# Altium integrated library TI Amplifiers and Linear Special Function Amplifier.IntLib: 708 symbols (part 39 of 47)
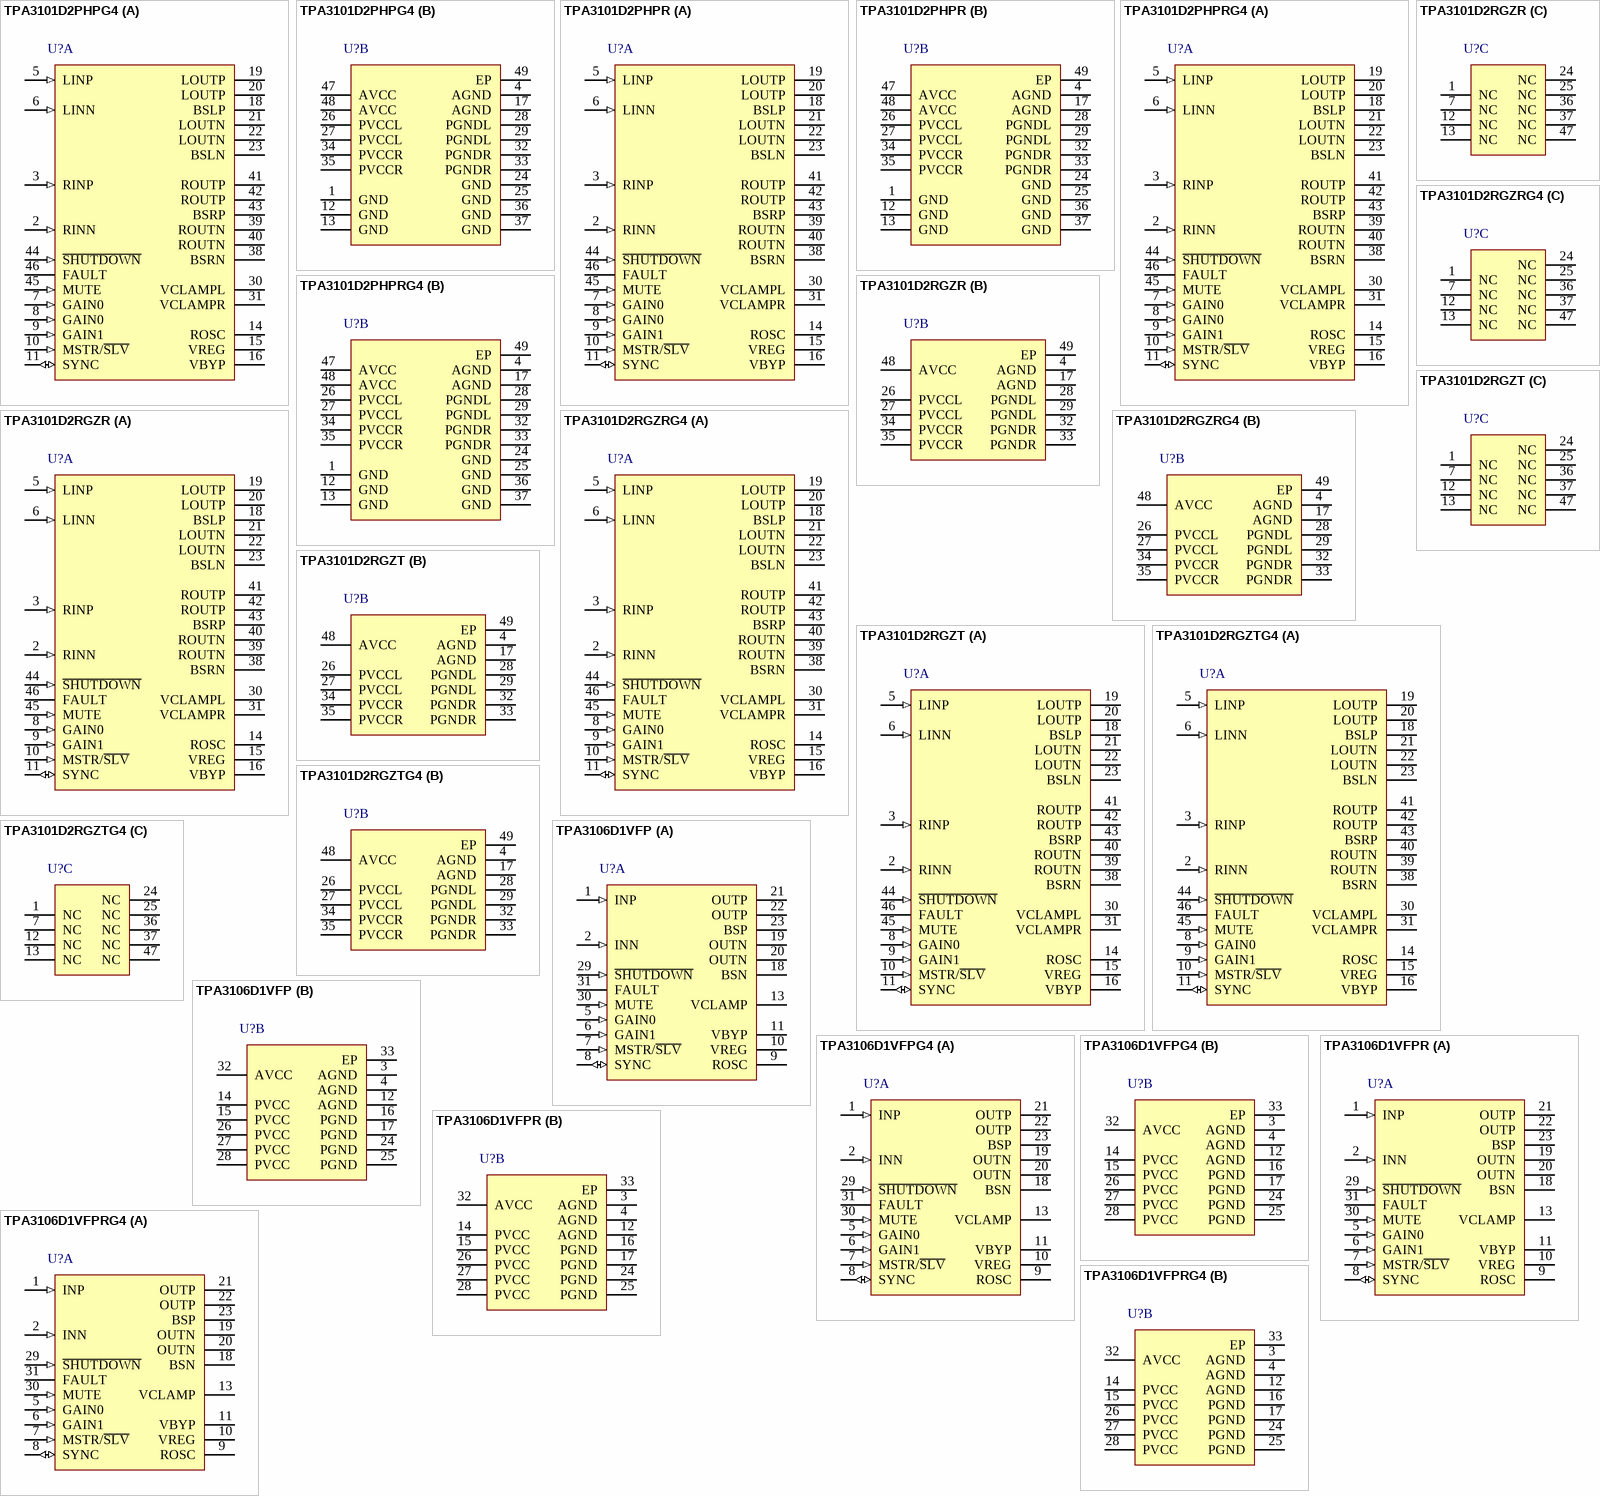
[diagram p77: symbols TPA3101D2PHPG4 to TPA3106D1VFPRG4]

## TPA3101D2RGZR
designator U?
10 W Stereo Class-D Audio Power Amplifier, -40 to 85 degC, 48-pin QFN (RGZ48), Green (RoHS & no Sb/Br); Manufacturer: Texas Instruments; PartNumber: TPA3101D2RGZR; Analog Supply Max [V]: 26; Analog Supply Min [V]: 10; Input Type: Analog; Max. Number of Speaker Outputs: 2; SubFamily: Mid/High-Power Amplifier; DatasheetVersion: SLOS473C; PackageVersion: 4204101/F, 06/2011; PackageReference: RGZ48-5150X5150TP; PackageDescription: 48-Pin Plastic Flat Pack, Body 7 x 7 mm, Pitch 0.5 mm; Supplier 1: Digi-Key; Supplier Part Number 1: 296-19424-2-ND; Supplier 2: Digi-Key; Supplier Part Number 2: 296-19424-1-ND; Supplier 3: Digi-Key; Supplier Part Number 3: 296-19424-6-ND; Supplier 4: Newark; Supplier Part Number 4: 72K0967; Supplier 5: Mouser; Supplier Part Number 5: 595-TPA3101D2RGZR; Eco-Plan: Green (RoHS & no Sb/Br); Power Stage Supply Min(V): 10; Mounting Technology: Surface Mount; Code_JEDEC: MO-220; ComponentLink1Description: Manufacturer URL; ComponentLink1URL: http://www.ti.com/; ComponentLink2Description: Datasheet; ComponentLink2URL: http://www.ti.com/general/docs/lit/getliterature.tsp?genericPartNumber=TPA3101D2&fileType=pdf; ComponentLink3Description: Package Specification; ComponentLink3URL: http://www.ti.com/lit/ml/mpqf123e/mpqf123e.pdf
footprint TI-RGZ48-5150X5150TP_V (QFN, 48-Leads, Body 7x7mm, Pitch 0.5mm, Thermal Pad 5.15x5.15mm, TI Recommended)
part A pins: 2 RINN (in) "Negative audio input for right channel. Biased at VREG/2.", 3 RINP (in) "Positive audio input for right channel. Biased at VREG/2.", 5 LINP (in) "Positive audio input for left channel. Biased at VREG/2.", 6 LINN (in) "Negative audio input for left channel. Biased at VREG/2.", 8 GAIN0 (in) "Gain select least significant bit. TTL logic levels with compliance to VREG.", 9 GAIN1 (in) "Gain select most significant bit. TTL logic levels with compliance to VREG.", 10 MSTR/~{SLV} (in) "Master/Slave select for determining direction of SYNC terminal. HIGH=Master mode, SYNC terminal is an output; LOW = slave mode, SYNC terminal accepts a clock input. TTL logic levels with compliance to VREG.", 11 SYNC (io) "Clock input/output for synchronizing multiple class-D devices. Direction determined by MSTR/S\L\V\ terminal. Input signal not to exceed VREG.", 14 ROSC "I/O for current setting resistor of ramp generator", 15 VREG "4-V regulated output for use by internal cells, GAINx, MUTE, and MSTR/S\L\V\ pins only. Not specified for driving other external circuitry", 16 VBYP "Reference for preamplifier. Nominally equal to 1.25 V. Also controls start-up time via external capacitor sizing.", 18 BSLP "Bootstrap I/O for left channel, positive high-side FET.", 19 LOUTP (hiz) "Class-D 1/2-H-bridge positive output for left channel", 20 LOUTP (hiz) "Class-D 1/2-H-bridge positive output for left channel", 21 LOUTN (hiz) "Class-D 1/2-H-bridge negative output for left channel.", 22 LOUTN (hiz) "Class-D 1/2-H-bridge negative output for left channel.", 23 BSLN "Bootstrap I/O for left channel, negative high-side FET.", 30 VCLAMPL "Internally generated voltage supply for left channel bootstrap capacitor.", 31 VCLAMPR "Internally generated voltage supply for right channel bootstrap capacitor.", 38 BSRN "Bootstrap I/O for right channel, negative high-side FET.", 39 ROUTN (hiz) "Class-D 1/2-H-bridge negative output for right channel.", 40 ROUTN (hiz) "Class-D 1/2-H-bridge negative output for right channel.", 41 ROUTP (hiz) "Class-D 1/2-H-bridge positive output for right channel.", 42 ROUTP (hiz) "Class-D 1/2-H-bridge positive output for right channel.", 43 BSRP "Bootstrap I/O for right channel, positive high-side FET.", 44 ~{SHUTDOWN} (in) "Shutdown signal for IC (LOW = disabled, HIGH = operational). TTL logic levels with compliance to AVCC.", 45 MUTE (in) "Mute signal for quick disable/enable of outputs (HIGH = outputs high-Z, LOW = outputs enabled). TTL logic levels with compliance to AVCC", 46 FAULT (hiz) "TTL compatible output. HIGH = short-circuit fault. LOW = no fault. Only reports short-circuit faults. Thermal faults are not reported on this terminal."
part B pins: 4 AGND (power) "Analog ground for digital/analog cells in core.", 17 AGND (power) "Analog ground for digital/analog cells in core.", 26 PVCCL (power) "Power supply for left channel H-bridge, not internally connected to PVCCR or AVCC.", 27 PVCCL (power) "Power supply for left channel H-bridge, not internally connected to PVCCR or AVCC.", 28 PGNDL (power) "Power ground for left channel H-bridge.", 29 PGNDL (power) "Power ground for left channel H-bridge.", 32 PGNDR (power) "Power ground for right channel H-bridge.", 33 PGNDR (power) "Power ground for right channel H-bridge.", 34 PVCCR (power) "Power supply for right channel H-bridge, not connected to PVCCL or AVCC.", 35 PVCCR (power) "Power supply for right channel H-bridge, not connected to PVCCL or AVCC.", 48 AVCC (power) "High-voltage analog power supply. Not internally connected to PVCCR or PVCCL.", 49 EP (power) "Connect to AGND and PGND - should be star point for both grounds. Internal resistive connection to AGND and PGND. Thermal vias on the PCB should connect this pad to a large copper area on an internal or bottom layer for the (See Datasheet)"
part C pins: 1 NC "Not internally connected.", 7 NC "Not internally connected.", 12 NC "Not internally connected.", 13 NC "Not internally connected.", 24 NC "Not internally connected.", 25 NC "Not internally connected.", 36 NC "Not internally connected.", 37 NC "Not internally connected.", 47 NC "Not internally connected."

## TPA3101D2RGZRG4
designator U?
10 W Stereo Class-D Audio Power Amplifier, -40 to 85 degC, 48-pin QFN (RGZ48), Green (RoHS & no Sb/Br); Manufacturer: Texas Instruments; PartNumber: TPA3101D2RGZRG4; Analog Supply Max [V]: 26; Analog Supply Min [V]: 10; Input Type: Analog; Max. Number of Speaker Outputs: 2; SubFamily: Mid/High-Power Amplifier; DatasheetVersion: SLOS473C; PackageVersion: 4204101/F, 06/2011; PackageReference: RGZ48-5150X5150TP; PackageDescription: 48-Pin Plastic Flat Pack, Body 7 x 7 mm, Pitch 0.5 mm; Supplier 1: Digi-Key; Supplier Part Number 1: TPA3101D2RGZRG4-ND; Supplier 2: Newark; Supplier Part Number 2: 73K9577; Supplier 3: Mouser; Supplier Part Number 3: 595-TPA3101D2RGZRG4; Eco-Plan: Green (RoHS & no Sb/Br); Power Stage Supply Min(V): 10; Mounting Technology: Surface Mount; Code_JEDEC: MO-220; ComponentLink1Description: Manufacturer URL; ComponentLink1URL: http://www.ti.com/; ComponentLink2Description: Datasheet; ComponentLink2URL: http://www.ti.com/general/docs/lit/getliterature.tsp?genericPartNumber=TPA3101D2&fileType=pdf; ComponentLink3Description: Package Specification; ComponentLink3URL: http://www.ti.com/lit/ml/mpqf123e/mpqf123e.pdf
footprint TI-RGZ48-5150X5150TP_V (QFN, 48-Leads, Body 7x7mm, Pitch 0.5mm, Thermal Pad 5.15x5.15mm, TI Recommended)
part A pins: 2 RINN (in) "Negative audio input for right channel. Biased at VREG/2.", 3 RINP (in) "Positive audio input for right channel. Biased at VREG/2.", 5 LINP (in) "Positive audio input for left channel. Biased at VREG/2.", 6 LINN (in) "Negative audio input for left channel. Biased at VREG/2.", 8 GAIN0 (in) "Gain select least significant bit. TTL logic levels with compliance to VREG.", 9 GAIN1 (in) "Gain select most significant bit. TTL logic levels with compliance to VREG.", 10 MSTR/~{SLV} (in) "Master/Slave select for determining direction of SYNC terminal. HIGH=Master mode, SYNC terminal is an output; LOW = slave mode, SYNC terminal accepts a clock input. TTL logic levels with compliance to VREG.", 11 SYNC (io) "Clock input/output for synchronizing multiple class-D devices. Direction determined by MSTR/S\L\V\ terminal. Input signal not to exceed VREG.", 14 ROSC "I/O for current setting resistor of ramp generator", 15 VREG "4-V regulated output for use by internal cells, GAINx, MUTE, and MSTR/S\L\V\ pins only. Not specified for driving other external circuitry", 16 VBYP "Reference for preamplifier. Nominally equal to 1.25 V. Also controls start-up time via external capacitor sizing.", 18 BSLP "Bootstrap I/O for left channel, positive high-side FET.", 19 LOUTP (hiz) "Class-D 1/2-H-bridge positive output for left channel", 20 LOUTP (hiz) "Class-D 1/2-H-bridge positive output for left channel", 21 LOUTN (hiz) "Class-D 1/2-H-bridge negative output for left channel.", 22 LOUTN (hiz) "Class-D 1/2-H-bridge negative output for left channel.", 23 BSLN "Bootstrap I/O for left channel, negative high-side FET.", 30 VCLAMPL "Internally generated voltage supply for left channel bootstrap capacitor.", 31 VCLAMPR "Internally generated voltage supply for right channel bootstrap capacitor.", 38 BSRN "Bootstrap I/O for right channel, negative high-side FET.", 39 ROUTN (hiz) "Class-D 1/2-H-bridge negative output for right channel.", 40 ROUTN (hiz) "Class-D 1/2-H-bridge negative output for right channel.", 41 ROUTP (hiz) "Class-D 1/2-H-bridge positive output for right channel.", 42 ROUTP (hiz) "Class-D 1/2-H-bridge positive output for right channel.", 43 BSRP "Bootstrap I/O for right channel, positive high-side FET.", 44 ~{SHUTDOWN} (in) "Shutdown signal for IC (LOW = disabled, HIGH = operational). TTL logic levels with compliance to AVCC.", 45 MUTE (in) "Mute signal for quick disable/enable of outputs (HIGH = outputs high-Z, LOW = outputs enabled). TTL logic levels with compliance to AVCC", 46 FAULT (hiz) "TTL compatible output. HIGH = short-circuit fault. LOW = no fault. Only reports short-circuit faults. Thermal faults are not reported on this terminal."
part B pins: 4 AGND (power) "Analog ground for digital/analog cells in core.", 17 AGND (power) "Analog ground for digital/analog cells in core.", 26 PVCCL (power) "Power supply for left channel H-bridge, not internally connected to PVCCR or AVCC.", 27 PVCCL (power) "Power supply for left channel H-bridge, not internally connected to PVCCR or AVCC.", 28 PGNDL (power) "Power ground for left channel H-bridge.", 29 PGNDL (power) "Power ground for left channel H-bridge.", 32 PGNDR (power) "Power ground for right channel H-bridge.", 33 PGNDR (power) "Power ground for right channel H-bridge.", 34 PVCCR (power) "Power supply for right channel H-bridge, not connected to PVCCL or AVCC.", 35 PVCCR (power) "Power supply for right channel H-bridge, not connected to PVCCL or AVCC.", 48 AVCC (power) "High-voltage analog power supply. Not internally connected to PVCCR or PVCCL.", 49 EP (power) "Connect to AGND and PGND - should be star point for both grounds. Internal resistive connection to AGND and PGND. Thermal vias on the PCB should connect this pad to a large copper area on an internal or bottom layer for the (See Datasheet)"
part C pins: 1 NC "Not internally connected.", 7 NC "Not internally connected.", 12 NC "Not internally connected.", 13 NC "Not internally connected.", 24 NC "Not internally connected.", 25 NC "Not internally connected.", 36 NC "Not internally connected.", 37 NC "Not internally connected.", 47 NC "Not internally connected."

## TPA3101D2RGZT
designator U?
10 W Stereo Class-D Audio Power Amplifier, -40 to 85 degC, 48-pin QFN (RGZ48), Green (RoHS & no Sb/Br); Manufacturer: Texas Instruments; PartNumber: TPA3101D2RGZT; Analog Supply Max [V]: 26; Analog Supply Min [V]: 10; Input Type: Analog; Max. Number of Speaker Outputs: 2; SubFamily: Mid/High-Power Amplifier; DatasheetVersion: SLOS473C; PackageVersion: 4204101/F, 06/2011; PackageReference: RGZ48-5150X5150TP; PackageDescription: 48-Pin Plastic Flat Pack, Body 7 x 7 mm, Pitch 0.5 mm; Supplier 1: Digi-Key; Supplier Part Number 1: TPA3101D2RGZT-ND; Supplier 2: Mouser; Supplier Part Number 2: 595-TPA3101D2RGZT; Eco-Plan: Green (RoHS & no Sb/Br); Power Stage Supply Min(V): 10; Mounting Technology: Surface Mount; Code_JEDEC: MO-220; ComponentLink1Description: Manufacturer URL; ComponentLink1URL: http://www.ti.com/; ComponentLink2Description: Datasheet; ComponentLink2URL: http://www.ti.com/general/docs/lit/getliterature.tsp?genericPartNumber=TPA3101D2&fileType=pdf; ComponentLink3Description: Package Specification; ComponentLink3URL: http://www.ti.com/lit/ml/mpqf123e/mpqf123e.pdf
footprint TI-RGZ48-5150X5150TP_V (QFN, 48-Leads, Body 7x7mm, Pitch 0.5mm, Thermal Pad 5.15x5.15mm, TI Recommended)
part A pins: 2 RINN (in) "Negative audio input for right channel. Biased at VREG/2.", 3 RINP (in) "Positive audio input for right channel. Biased at VREG/2.", 5 LINP (in) "Positive audio input for left channel. Biased at VREG/2.", 6 LINN (in) "Negative audio input for left channel. Biased at VREG/2.", 8 GAIN0 (in) "Gain select least significant bit. TTL logic levels with compliance to VREG.", 9 GAIN1 (in) "Gain select most significant bit. TTL logic levels with compliance to VREG.", 10 MSTR/~{SLV} (in) "Master/Slave select for determining direction of SYNC terminal. HIGH=Master mode, SYNC terminal is an output; LOW = slave mode, SYNC terminal accepts a clock input. TTL logic levels with compliance to VREG.", 11 SYNC (io) "Clock input/output for synchronizing multiple class-D devices. Direction determined by MSTR/S\L\V\ terminal. Input signal not to exceed VREG.", 14 ROSC "I/O for current setting resistor of ramp generator", 15 VREG "4-V regulated output for use by internal cells, GAINx, MUTE, and MSTR/S\L\V\ pins only. Not specified for driving other external circuitry", 16 VBYP "Reference for preamplifier. Nominally equal to 1.25 V. Also controls start-up time via external capacitor sizing.", 18 BSLP "Bootstrap I/O for left channel, positive high-side FET.", 19 LOUTP (hiz) "Class-D 1/2-H-bridge positive output for left channel", 20 LOUTP (hiz) "Class-D 1/2-H-bridge positive output for left channel", 21 LOUTN (hiz) "Class-D 1/2-H-bridge negative output for left channel.", 22 LOUTN (hiz) "Class-D 1/2-H-bridge negative output for left channel.", 23 BSLN "Bootstrap I/O for left channel, negative high-side FET.", 30 VCLAMPL "Internally generated voltage supply for left channel bootstrap capacitor.", 31 VCLAMPR "Internally generated voltage supply for right channel bootstrap capacitor.", 38 BSRN "Bootstrap I/O for right channel, negative high-side FET.", 39 ROUTN (hiz) "Class-D 1/2-H-bridge negative output for right channel.", 40 ROUTN (hiz) "Class-D 1/2-H-bridge negative output for right channel.", 41 ROUTP (hiz) "Class-D 1/2-H-bridge positive output for right channel.", 42 ROUTP (hiz) "Class-D 1/2-H-bridge positive output for right channel.", 43 BSRP "Bootstrap I/O for right channel, positive high-side FET.", 44 ~{SHUTDOWN} (in) "Shutdown signal for IC (LOW = disabled, HIGH = operational). TTL logic levels with compliance to AVCC.", 45 MUTE (in) "Mute signal for quick disable/enable of outputs (HIGH = outputs high-Z, LOW = outputs enabled). TTL logic levels with compliance to AVCC", 46 FAULT (hiz) "TTL compatible output. HIGH = short-circuit fault. LOW = no fault. Only reports short-circuit faults. Thermal faults are not reported on this terminal."
part B pins: 4 AGND (power) "Analog ground for digital/analog cells in core.", 17 AGND (power) "Analog ground for digital/analog cells in core.", 26 PVCCL (power) "Power supply for left channel H-bridge, not internally connected to PVCCR or AVCC.", 27 PVCCL (power) "Power supply for left channel H-bridge, not internally connected to PVCCR or AVCC.", 28 PGNDL (power) "Power ground for left channel H-bridge.", 29 PGNDL (power) "Power ground for left channel H-bridge.", 32 PGNDR (power) "Power ground for right channel H-bridge.", 33 PGNDR (power) "Power ground for right channel H-bridge.", 34 PVCCR (power) "Power supply for right channel H-bridge, not connected to PVCCL or AVCC.", 35 PVCCR (power) "Power supply for right channel H-bridge, not connected to PVCCL or AVCC.", 48 AVCC (power) "High-voltage analog power supply. Not internally connected to PVCCR or PVCCL.", 49 EP (power) "Connect to AGND and PGND - should be star point for both grounds. Internal resistive connection to AGND and PGND. Thermal vias on the PCB should connect this pad to a large copper area on an internal or bottom layer for the (See Datasheet)"
part C pins: 1 NC "Not internally connected.", 7 NC "Not internally connected.", 12 NC "Not internally connected.", 13 NC "Not internally connected.", 24 NC "Not internally connected.", 25 NC "Not internally connected.", 36 NC "Not internally connected.", 37 NC "Not internally connected.", 47 NC "Not internally connected."

## TPA3101D2RGZTG4
designator U?
10 W Stereo Class-D Audio Power Amplifier, -40 to 85 degC, 48-pin QFN (RGZ48), Green (RoHS & no Sb/Br); Manufacturer: Texas Instruments; PartNumber: TPA3101D2RGZTG4; Analog Supply Max [V]: 26; Analog Supply Min [V]: 10; Input Type: Analog; Max. Number of Speaker Outputs: 2; SubFamily: Mid/High-Power Amplifier; DatasheetVersion: SLOS473C; PackageVersion: 4204101/F, 06/2011; PackageReference: RGZ48-5150X5150TP; PackageDescription: 48-Pin Plastic Flat Pack, Body 7 x 7 mm, Pitch 0.5 mm; Supplier 1: Digi-Key; Supplier Part Number 1: TPA3101D2RGZTG4-ND; Supplier 2: Mouser; Supplier Part Number 2: 595-TPA3101D2RGZTG4; Eco-Plan: Green (RoHS & no Sb/Br); Power Stage Supply Min(V): 10; Mounting Technology: Surface Mount; Code_JEDEC: MO-220; ComponentLink1Description: Manufacturer URL; ComponentLink1URL: http://www.ti.com/; ComponentLink2Description: Datasheet; ComponentLink2URL: http://www.ti.com/general/docs/lit/getliterature.tsp?genericPartNumber=TPA3101D2&fileType=pdf; ComponentLink3Description: Package Specification; ComponentLink3URL: http://www.ti.com/lit/ml/mpqf123e/mpqf123e.pdf
footprint TI-RGZ48-5150X5150TP_V (QFN, 48-Leads, Body 7x7mm, Pitch 0.5mm, Thermal Pad 5.15x5.15mm, TI Recommended)
part A pins: 2 RINN (in) "Negative audio input for right channel. Biased at VREG/2.", 3 RINP (in) "Positive audio input for right channel. Biased at VREG/2.", 5 LINP (in) "Positive audio input for left channel. Biased at VREG/2.", 6 LINN (in) "Negative audio input for left channel. Biased at VREG/2.", 8 GAIN0 (in) "Gain select least significant bit. TTL logic levels with compliance to VREG.", 9 GAIN1 (in) "Gain select most significant bit. TTL logic levels with compliance to VREG.", 10 MSTR/~{SLV} (in) "Master/Slave select for determining direction of SYNC terminal. HIGH=Master mode, SYNC terminal is an output; LOW = slave mode, SYNC terminal accepts a clock input. TTL logic levels with compliance to VREG.", 11 SYNC (io) "Clock input/output for synchronizing multiple class-D devices. Direction determined by MSTR/S\L\V\ terminal. Input signal not to exceed VREG.", 14 ROSC "I/O for current setting resistor of ramp generator", 15 VREG "4-V regulated output for use by internal cells, GAINx, MUTE, and MSTR/S\L\V\ pins only. Not specified for driving other external circuitry", 16 VBYP "Reference for preamplifier. Nominally equal to 1.25 V. Also controls start-up time via external capacitor sizing.", 18 BSLP "Bootstrap I/O for left channel, positive high-side FET.", 19 LOUTP (hiz) "Class-D 1/2-H-bridge positive output for left channel", 20 LOUTP (hiz) "Class-D 1/2-H-bridge positive output for left channel", 21 LOUTN (hiz) "Class-D 1/2-H-bridge negative output for left channel.", 22 LOUTN (hiz) "Class-D 1/2-H-bridge negative output for left channel.", 23 BSLN "Bootstrap I/O for left channel, negative high-side FET.", 30 VCLAMPL "Internally generated voltage supply for left channel bootstrap capacitor.", 31 VCLAMPR "Internally generated voltage supply for right channel bootstrap capacitor.", 38 BSRN "Bootstrap I/O for right channel, negative high-side FET.", 39 ROUTN (hiz) "Class-D 1/2-H-bridge negative output for right channel.", 40 ROUTN (hiz) "Class-D 1/2-H-bridge negative output for right channel.", 41 ROUTP (hiz) "Class-D 1/2-H-bridge positive output for right channel.", 42 ROUTP (hiz) "Class-D 1/2-H-bridge positive output for right channel.", 43 BSRP "Bootstrap I/O for right channel, positive high-side FET.", 44 ~{SHUTDOWN} (in) "Shutdown signal for IC (LOW = disabled, HIGH = operational). TTL logic levels with compliance to AVCC.", 45 MUTE (in) "Mute signal for quick disable/enable of outputs (HIGH = outputs high-Z, LOW = outputs enabled). TTL logic levels with compliance to AVCC", 46 FAULT (hiz) "TTL compatible output. HIGH = short-circuit fault. LOW = no fault. Only reports short-circuit faults. Thermal faults are not reported on this terminal."
part B pins: 4 AGND (power) "Analog ground for digital/analog cells in core.", 17 AGND (power) "Analog ground for digital/analog cells in core.", 26 PVCCL (power) "Power supply for left channel H-bridge, not internally connected to PVCCR or AVCC.", 27 PVCCL (power) "Power supply for left channel H-bridge, not internally connected to PVCCR or AVCC.", 28 PGNDL (power) "Power ground for left channel H-bridge.", 29 PGNDL (power) "Power ground for left channel H-bridge.", 32 PGNDR (power) "Power ground for right channel H-bridge.", 33 PGNDR (power) "Power ground for right channel H-bridge.", 34 PVCCR (power) "Power supply for right channel H-bridge, not connected to PVCCL or AVCC.", 35 PVCCR (power) "Power supply for right channel H-bridge, not connected to PVCCL or AVCC.", 48 AVCC (power) "High-voltage analog power supply. Not internally connected to PVCCR or PVCCL.", 49 EP (power) "Connect to AGND and PGND - should be star point for both grounds. Internal resistive connection to AGND and PGND. Thermal vias on the PCB should connect this pad to a large copper area on an internal or bottom layer for the (See Datasheet)"
part C pins: 1 NC "Not internally connected.", 7 NC "Not internally connected.", 12 NC "Not internally connected.", 13 NC "Not internally connected.", 24 NC "Not internally connected.", 25 NC "Not internally connected.", 36 NC "Not internally connected.", 37 NC "Not internally connected.", 47 NC "Not internally connected."

## TPA3106D1VFP
designator U?
40 W Mono Class-D Audio Power Amplifier, -40 to 85 degC, 32-pin QFP (VFP32), Green (RoHS & no Sb/Br); Manufacturer: Texas Instruments; PartNumber: TPA3106D1VFP; Analog Supply Max [V]: 26; Analog Supply Min [V]: 10; Input Type: Analog; Max. Number of Speaker Outputs: 1; SubFamily: Mid/High-Power Amplifier; DatasheetVersion: SLOS516C; PackageVersion: 4200791/C, 04/2012; PackageReference: VFP32-4250X4250TP; PackageDescription: 32-Pin Plastic Quad Flatpack, Body 7 x 7 mm, Pitch 0.8 mm; Supplier 1: Digi-Key; Supplier Part Number 1: 296-26884-ND; Supplier 2: Newark; Supplier Part Number 2: 65M5964; Supplier 3: Mouser; Supplier Part Number 3: 595-TPA3106D1VFP; Eco-Plan: Green (RoHS & no Sb/Br); Power Stage Supply Min(V): 10; Mounting Technology: Surface Mount; Code_JEDEC: MS-026; ComponentLink1Description: Manufacturer URL; ComponentLink1URL: http://www.ti.com/; ComponentLink2Description: Datasheet; ComponentLink2URL: http://www.ti.com/general/docs/lit/getliterature.tsp?genericPartNumber=TPA3106D1&fileType=pdf; ComponentLink3Description: Package Specification; ComponentLink3URL: http://www.ti.com/litv/pdf/mpdi001b
footprint TI-VFP32-4250X4250TP_N (QFP, 32-Leads, Body 7x7mm, Pitch 0.8mm, Thermal Pad 4.6x4.6mm, IPC Medium Density)
footprint TI-VFP32-4250X4250TP_L (QFP, 32-Leads, Body 7x7mm, Pitch 0.8mm, Thermal Pad 4.6x4.6mm, IPC High Density)
footprint TI-VFP32-4250X4250TP_M (QFP, 32-Leads, Body 7x7mm, Pitch 0.8mm, Thermal Pad 4.6x4.6mm, IPC Low Density)
part A pins: 1 INP (in) "Positive audio input", 2 INN (in) "Negative audio input", 5 GAIN0 (in) "Gain select least significant bit. TTL logic levels with compliance to VREG.", 6 GAIN1 (in) "Gain select most significant bit. TTL logic levels with compliance to VREG.", 7 MSTR/~{SLV} (in) "Master/Slave select for determining direction of SYNC terminal. HIGH=Master mode, SYNC terminal is an output; LOW = slave mode, SYNC terminal accepts a clock input. TTL logic levels with compliance to VREG.", 8 SYNC (io) "Clock input/output for synchronizing multiple class-D devices. Direction determined by MSTR/S\L\V\ terminal. Input signal not to exceed VREG.", 9 ROSC "I/O for current setting resistor of ramp generator.", 10 VREG "4-V regulated output for use by internal cells, GAINx, MUTE, and MSTR/S\L\V\ pins only. Not specified for driving other external circuitry.", 11 VBYP "Reference for preamplifier. Nominally equal to 1.25 V. Also controls start-up time via external capacitor sizing.", 13 VCLAMP "Internally generated voltage supply forbootstrap capacitor.", 18 BSN "Bootstrap I/O for left channel, negative high-side FET.", 19 OUTN (hiz) "Class-D 1/2-H-bridge negative output", 20 OUTN (hiz) "Class-D 1/2-H-bridge negative output", 21 OUTP (hiz) "Class-D 1/2-H-bridge positive output", 22 OUTP (hiz) "Class-D 1/2-H-bridge positive output", 23 BSP "Bootstrap I/O for left channel, positive high-side FET.", 29 ~{SHUTDOWN} (in) "Active low. Shutdown signal for IC (LOW = disabled, HIGH = operational). TTL logic levels with compliance to AVCC.", 30 MUTE (in) "Active high. Mute signal for quick disable/enable of outputs (HIGH = outputs high-Z, LOW = outputs enabled). TTL logic levels with compliance to AVCC.", 31 FAULT (hiz) "TTL compatible output. HIGH = short-circuit fault. LOW = no fault. Only reports short-circuit faults. Thermal faults are not reported on this terminal"
part B pins: 3 AGND (power) "Analog ground for digital/analog cells in core.", 4 AGND (power) "Analog ground for digital/analog cells in core.", 12 AGND (power) "Analog ground for digital/analog cells in core.", 14 PVCC (power) "Power supply for left channel H-bridge, not internally connected to AVCC.", 15 PVCC (power) "Power supply for left channel H-bridge, not internally connected to AVCC.", 16 PGND (power) "Power ground for H-bridge", 17 PGND (power) "Power ground for H-bridge", 24 PGND (power) "Power ground for H-bridge", 25 PGND (power) "Power ground for H-bridge", 26 PVCC (power) "Power supply for left channel H-bridge, not internally connected to AVCC.", 27 PVCC (power) "Power supply for left channel H-bridge, not internally connected to AVCC.", 28 PVCC (power) "Power supply for left channel H-bridge, not internally connected to AVCC.", 32 AVCC (power) "High-voltage analog power supply. Not internally connected to PVCCL.", 33 EP (power) "Connect to AGND and PGND - should be star point for both grounds. Internal resistive connection to AGND and PGND. Thermal vias on the PCB should connect this pad to a large copper area on an internal or bottom layer for the (See Datasheet)"

## TPA3106D1VFPG4
designator U?
40 W Mono Class-D Audio Power Amplifier, -40 to 85 degC, 32-pin QFP (VFP32), Green (RoHS & no Sb/Br); Manufacturer: Texas Instruments; PartNumber: TPA3106D1VFPG4; Analog Supply Max [V]: 26; Analog Supply Min [V]: 10; Input Type: Analog; Max. Number of Speaker Outputs: 1; SubFamily: Mid/High-Power Amplifier; DatasheetVersion: SLOS516C; PackageVersion: 4200791/C, 04/2012; PackageReference: VFP32-4250X4250TP; PackageDescription: 32-Pin Plastic Quad Flatpack, Body 7 x 7 mm, Pitch 0.8 mm; Supplier 1: Digi-Key; Supplier Part Number 1: TPA3106D1VFPG4-ND; Supplier 2: Mouser; Supplier Part Number 2: 595-TPA3106D1VFPG4; Eco-Plan: Green (RoHS & no Sb/Br); Power Stage Supply Min(V): 10; Mounting Technology: Surface Mount; Code_JEDEC: MS-026; ComponentLink1Description: Manufacturer URL; ComponentLink1URL: http://www.ti.com/; ComponentLink2Description: Datasheet; ComponentLink2URL: http://www.ti.com/general/docs/lit/getliterature.tsp?genericPartNumber=TPA3106D1&fileType=pdf; ComponentLink3Description: Package Specification; ComponentLink3URL: http://www.ti.com/litv/pdf/mpdi001b
footprint TI-VFP32-4250X4250TP_N (QFP, 32-Leads, Body 7x7mm, Pitch 0.8mm, Thermal Pad 4.6x4.6mm, IPC Medium Density)
footprint TI-VFP32-4250X4250TP_L (QFP, 32-Leads, Body 7x7mm, Pitch 0.8mm, Thermal Pad 4.6x4.6mm, IPC High Density)
footprint TI-VFP32-4250X4250TP_M (QFP, 32-Leads, Body 7x7mm, Pitch 0.8mm, Thermal Pad 4.6x4.6mm, IPC Low Density)
part A pins: 1 INP (in) "Positive audio input", 2 INN (in) "Negative audio input", 5 GAIN0 (in) "Gain select least significant bit. TTL logic levels with compliance to VREG.", 6 GAIN1 (in) "Gain select most significant bit. TTL logic levels with compliance to VREG.", 7 MSTR/~{SLV} (in) "Master/Slave select for determining direction of SYNC terminal. HIGH=Master mode, SYNC terminal is an output; LOW = slave mode, SYNC terminal accepts a clock input. TTL logic levels with compliance to VREG.", 8 SYNC (io) "Clock input/output for synchronizing multiple class-D devices. Direction determined by MSTR/S\L\V\ terminal. Input signal not to exceed VREG.", 9 ROSC "I/O for current setting resistor of ramp generator.", 10 VREG "4-V regulated output for use by internal cells, GAINx, MUTE, and MSTR/S\L\V\ pins only. Not specified for driving other external circuitry.", 11 VBYP "Reference for preamplifier. Nominally equal to 1.25 V. Also controls start-up time via external capacitor sizing.", 13 VCLAMP "Internally generated voltage supply forbootstrap capacitor.", 18 BSN "Bootstrap I/O for left channel, negative high-side FET.", 19 OUTN (hiz) "Class-D 1/2-H-bridge negative output", 20 OUTN (hiz) "Class-D 1/2-H-bridge negative output", 21 OUTP (hiz) "Class-D 1/2-H-bridge positive output", 22 OUTP (hiz) "Class-D 1/2-H-bridge positive output", 23 BSP "Bootstrap I/O for left channel, positive high-side FET.", 29 ~{SHUTDOWN} (in) "Active low. Shutdown signal for IC (LOW = disabled, HIGH = operational). TTL logic levels with compliance to AVCC.", 30 MUTE (in) "Active high. Mute signal for quick disable/enable of outputs (HIGH = outputs high-Z, LOW = outputs enabled). TTL logic levels with compliance to AVCC.", 31 FAULT (hiz) "TTL compatible output. HIGH = short-circuit fault. LOW = no fault. Only reports short-circuit faults. Thermal faults are not reported on this terminal"
part B pins: 3 AGND (power) "Analog ground for digital/analog cells in core.", 4 AGND (power) "Analog ground for digital/analog cells in core.", 12 AGND (power) "Analog ground for digital/analog cells in core.", 14 PVCC (power) "Power supply for left channel H-bridge, not internally connected to AVCC.", 15 PVCC (power) "Power supply for left channel H-bridge, not internally connected to AVCC.", 16 PGND (power) "Power ground for H-bridge", 17 PGND (power) "Power ground for H-bridge", 24 PGND (power) "Power ground for H-bridge", 25 PGND (power) "Power ground for H-bridge", 26 PVCC (power) "Power supply for left channel H-bridge, not internally connected to AVCC.", 27 PVCC (power) "Power supply for left channel H-bridge, not internally connected to AVCC.", 28 PVCC (power) "Power supply for left channel H-bridge, not internally connected to AVCC.", 32 AVCC (power) "High-voltage analog power supply. Not internally connected to PVCCL.", 33 EP (power) "Connect to AGND and PGND - should be star point for both grounds. Internal resistive connection to AGND and PGND. Thermal vias on the PCB should connect this pad to a large copper area on an internal or bottom layer for the (See Datasheet)"

## TPA3106D1VFPR
designator U?
40 W Mono Class-D Audio Power Amplifier, -40 to 85 degC, 32-pin QFP (VFP32), Green (RoHS & no Sb/Br); Manufacturer: Texas Instruments; PartNumber: TPA3106D1VFPR; Analog Supply Max [V]: 26; Analog Supply Min [V]: 10; Input Type: Analog; Max. Number of Speaker Outputs: 1; SubFamily: Mid/High-Power Amplifier; DatasheetVersion: SLOS516C; PackageVersion: 4200791/C, 04/2012; PackageReference: VFP32-4250X4250TP; PackageDescription: 32-Pin Plastic Quad Flatpack, Body 7 x 7 mm, Pitch 0.8 mm; Supplier 1: Digi-Key; Supplier Part Number 1: 296-22976-2-ND; Supplier 2: Digi-Key; Supplier Part Number 2: 296-22976-1-ND; Supplier 3: Digi-Key; Supplier Part Number 3: 296-22976-6-ND; Supplier 4: Farnell; Supplier Part Number 4: 1703199RL; Supplier 5: Farnell; Supplier Part Number 5: 1703199; Supplier 6: Newark; Supplier Part Number 6: 65M5966; Supplier 7: Mouser; Supplier Part Number 7: 595-TPA3106D1VFPR; Eco-Plan: Green (RoHS & no Sb/Br); Power Stage Supply Min(V): 10; Mounting Technology: Surface Mount; Code_JEDEC: MS-026; ComponentLink1Description: Manufacturer URL; ComponentLink1URL: http://www.ti.com/; ComponentLink2Description: Datasheet; ComponentLink2URL: http://www.ti.com/general/docs/lit/getliterature.tsp?genericPartNumber=TPA3106D1&fileType=pdf; ComponentLink3Description: Package Specification; ComponentLink3URL: http://www.ti.com/litv/pdf/mpdi001b
footprint TI-VFP32-4250X4250TP_N (QFP, 32-Leads, Body 7x7mm, Pitch 0.8mm, Thermal Pad 4.6x4.6mm, IPC Medium Density)
footprint TI-VFP32-4250X4250TP_L (QFP, 32-Leads, Body 7x7mm, Pitch 0.8mm, Thermal Pad 4.6x4.6mm, IPC High Density)
footprint TI-VFP32-4250X4250TP_M (QFP, 32-Leads, Body 7x7mm, Pitch 0.8mm, Thermal Pad 4.6x4.6mm, IPC Low Density)
part A pins: 1 INP (in) "Positive audio input", 2 INN (in) "Negative audio input", 5 GAIN0 (in) "Gain select least significant bit. TTL logic levels with compliance to VREG.", 6 GAIN1 (in) "Gain select most significant bit. TTL logic levels with compliance to VREG.", 7 MSTR/~{SLV} (in) "Master/Slave select for determining direction of SYNC terminal. HIGH=Master mode, SYNC terminal is an output; LOW = slave mode, SYNC terminal accepts a clock input. TTL logic levels with compliance to VREG.", 8 SYNC (io) "Clock input/output for synchronizing multiple class-D devices. Direction determined by MSTR/S\L\V\ terminal. Input signal not to exceed VREG.", 9 ROSC "I/O for current setting resistor of ramp generator.", 10 VREG "4-V regulated output for use by internal cells, GAINx, MUTE, and MSTR/S\L\V\ pins only. Not specified for driving other external circuitry.", 11 VBYP "Reference for preamplifier. Nominally equal to 1.25 V. Also controls start-up time via external capacitor sizing.", 13 VCLAMP "Internally generated voltage supply forbootstrap capacitor.", 18 BSN "Bootstrap I/O for left channel, negative high-side FET.", 19 OUTN (hiz) "Class-D 1/2-H-bridge negative output", 20 OUTN (hiz) "Class-D 1/2-H-bridge negative output", 21 OUTP (hiz) "Class-D 1/2-H-bridge positive output", 22 OUTP (hiz) "Class-D 1/2-H-bridge positive output", 23 BSP "Bootstrap I/O for left channel, positive high-side FET.", 29 ~{SHUTDOWN} (in) "Active low. Shutdown signal for IC (LOW = disabled, HIGH = operational). TTL logic levels with compliance to AVCC.", 30 MUTE (in) "Active high. Mute signal for quick disable/enable of outputs (HIGH = outputs high-Z, LOW = outputs enabled). TTL logic levels with compliance to AVCC.", 31 FAULT (hiz) "TTL compatible output. HIGH = short-circuit fault. LOW = no fault. Only reports short-circuit faults. Thermal faults are not reported on this terminal"
part B pins: 3 AGND (power) "Analog ground for digital/analog cells in core.", 4 AGND (power) "Analog ground for digital/analog cells in core.", 12 AGND (power) "Analog ground for digital/analog cells in core.", 14 PVCC (power) "Power supply for left channel H-bridge, not internally connected to AVCC.", 15 PVCC (power) "Power supply for left channel H-bridge, not internally connected to AVCC.", 16 PGND (power) "Power ground for H-bridge", 17 PGND (power) "Power ground for H-bridge", 24 PGND (power) "Power ground for H-bridge", 25 PGND (power) "Power ground for H-bridge", 26 PVCC (power) "Power supply for left channel H-bridge, not internally connected to AVCC.", 27 PVCC (power) "Power supply for left channel H-bridge, not internally connected to AVCC.", 28 PVCC (power) "Power supply for left channel H-bridge, not internally connected to AVCC.", 32 AVCC (power) "High-voltage analog power supply. Not internally connected to PVCCL.", 33 EP (power) "Connect to AGND and PGND - should be star point for both grounds. Internal resistive connection to AGND and PGND. Thermal vias on the PCB should connect this pad to a large copper area on an internal or bottom layer for the (See Datasheet)"

## TPA3106D1VFPRG4
designator U?
40 W Mono Class-D Audio Power Amplifier, -40 to 85 degC, 32-pin QFP (VFP32), Green (RoHS & no Sb/Br); Manufacturer: Texas Instruments; PartNumber: TPA3106D1VFPRG4; Analog Supply Max [V]: 26; Analog Supply Min [V]: 10; Input Type: Analog; Max. Number of Speaker Outputs: 1; SubFamily: Mid/High-Power Amplifier; DatasheetVersion: SLOS516C; PackageVersion: 4200791/C, 04/2012; PackageReference: VFP32-4250X4250TP; PackageDescription: 32-Pin Plastic Quad Flatpack, Body 7 x 7 mm, Pitch 0.8 mm; Supplier 1: Digi-Key; Supplier Part Number 1: TPA3106D1VFPRG4-ND; Supplier 2: Mouser; Supplier Part Number 2: 595-TPA3106D1VFPRG4; Eco-Plan: Green (RoHS & no Sb/Br); Power Stage Supply Min(V): 10; Mounting Technology: Surface Mount; Code_JEDEC: MS-026; ComponentLink1Description: Manufacturer URL; ComponentLink1URL: http://www.ti.com/; ComponentLink2Description: Datasheet; ComponentLink2URL: http://www.ti.com/general/docs/lit/getliterature.tsp?genericPartNumber=TPA3106D1&fileType=pdf; ComponentLink3Description: Package Specification; ComponentLink3URL: http://www.ti.com/litv/pdf/mpdi001b
footprint TI-VFP32-4250X4250TP_N (QFP, 32-Leads, Body 7x7mm, Pitch 0.8mm, Thermal Pad 4.6x4.6mm, IPC Medium Density)
footprint TI-VFP32-4250X4250TP_L (QFP, 32-Leads, Body 7x7mm, Pitch 0.8mm, Thermal Pad 4.6x4.6mm, IPC High Density)
footprint TI-VFP32-4250X4250TP_M (QFP, 32-Leads, Body 7x7mm, Pitch 0.8mm, Thermal Pad 4.6x4.6mm, IPC Low Density)
part A pins: 1 INP (in) "Positive audio input", 2 INN (in) "Negative audio input", 5 GAIN0 (in) "Gain select least significant bit. TTL logic levels with compliance to VREG.", 6 GAIN1 (in) "Gain select most significant bit. TTL logic levels with compliance to VREG.", 7 MSTR/~{SLV} (in) "Master/Slave select for determining direction of SYNC terminal. HIGH=Master mode, SYNC terminal is an output; LOW = slave mode, SYNC terminal accepts a clock input. TTL logic levels with compliance to VREG.", 8 SYNC (io) "Clock input/output for synchronizing multiple class-D devices. Direction determined by MSTR/S\L\V\ terminal. Input signal not to exceed VREG.", 9 ROSC "I/O for current setting resistor of ramp generator.", 10 VREG "4-V regulated output for use by internal cells, GAINx, MUTE, and MSTR/S\L\V\ pins only. Not specified for driving other external circuitry.", 11 VBYP "Reference for preamplifier. Nominally equal to 1.25 V. Also controls start-up time via external capacitor sizing.", 13 VCLAMP "Internally generated voltage supply forbootstrap capacitor.", 18 BSN "Bootstrap I/O for left channel, negative high-side FET.", 19 OUTN (hiz) "Class-D 1/2-H-bridge negative output", 20 OUTN (hiz) "Class-D 1/2-H-bridge negative output", 21 OUTP (hiz) "Class-D 1/2-H-bridge positive output", 22 OUTP (hiz) "Class-D 1/2-H-bridge positive output", 23 BSP "Bootstrap I/O for left channel, positive high-side FET.", 29 ~{SHUTDOWN} (in) "Active low. Shutdown signal for IC (LOW = disabled, HIGH = operational). TTL logic levels with compliance to AVCC.", 30 MUTE (in) "Active high. Mute signal for quick disable/enable of outputs (HIGH = outputs high-Z, LOW = outputs enabled). TTL logic levels with compliance to AVCC.", 31 FAULT (hiz) "TTL compatible output. HIGH = short-circuit fault. LOW = no fault. Only reports short-circuit faults. Thermal faults are not reported on this terminal"
part B pins: 3 AGND (power) "Analog ground for digital/analog cells in core.", 4 AGND (power) "Analog ground for digital/analog cells in core.", 12 AGND (power) "Analog ground for digital/analog cells in core.", 14 PVCC (power) "Power supply for left channel H-bridge, not internally connected to AVCC.", 15 PVCC (power) "Power supply for left channel H-bridge, not internally connected to AVCC.", 16 PGND (power) "Power ground for H-bridge", 17 PGND (power) "Power ground for H-bridge", 24 PGND (power) "Power ground for H-bridge", 25 PGND (power) "Power ground for H-bridge", 26 PVCC (power) "Power supply for left channel H-bridge, not internally connected to AVCC.", 27 PVCC (power) "Power supply for left channel H-bridge, not internally connected to AVCC.", 28 PVCC (power) "Power supply for left channel H-bridge, not internally connected to AVCC.", 32 AVCC (power) "High-voltage analog power supply. Not internally connected to PVCCL.", 33 EP (power) "Connect to AGND and PGND - should be star point for both grounds. Internal resistive connection to AGND and PGND. Thermal vias on the PCB should connect this pad to a large copper area on an internal or bottom layer for the (See Datasheet)"

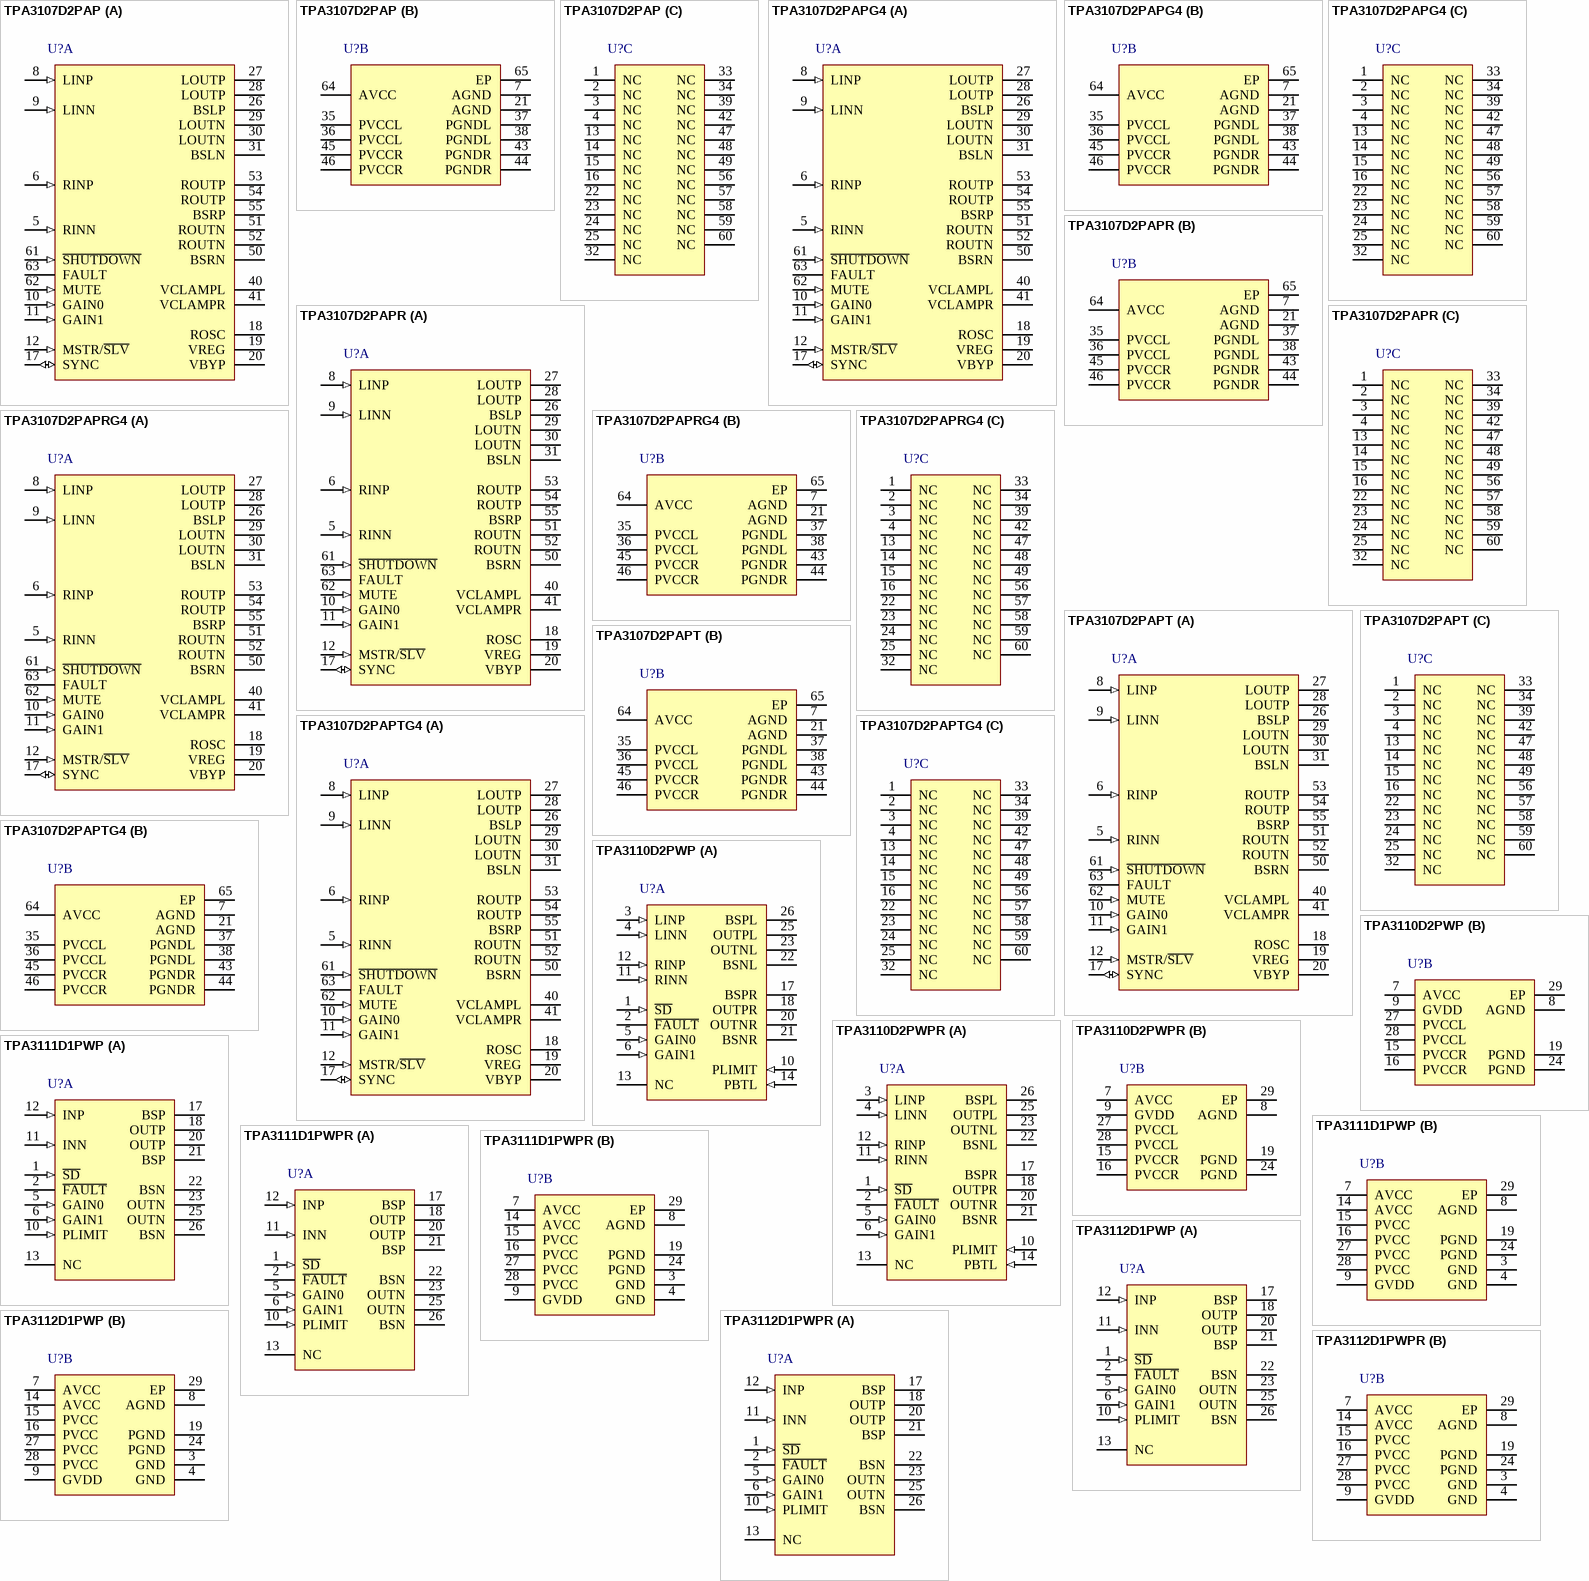
[diagram p34: symbols TPA3107D2PAP to TPA3112D1PWPR]

## TPA3107D2PAP
designator U?
15 W Stereo Class-D Audio Power Amplifier, -40 to 85 degC, 64-pin QFP (PAP64), Green (RoHS & no Sb/Br); Manufacturer: Texas Instruments; PartNumber: TPA3107D2PAP; Analog Supply Max [V]: 26; Analog Supply Min [V]: 10; Input Type: Analog; Max. Number of Speaker Outputs: 2; SubFamily: Mid/High-Power Amplifier; DatasheetVersion: SLOS509B; PackageVersion: 4147702/C, 08/2003; PackageReference: PAP64-4935X4935TP; PackageDescription: 64-Pin Plastic Flat Pack, Body 10 x 10 mm, Pitch 0.5 mm; Supplier 1: Digi-Key; Supplier Part Number 1: TPA3107D2PAP-ND; Supplier 2: Mouser; Supplier Part Number 2: 595-TPA3107D2PAP; Eco-Plan: Green (RoHS & no Sb/Br); Power Stage Supply Min(V): 10; Mounting Technology: Surface Mount; Code_JEDEC: MS-026; ComponentLink1Description: Manufacturer URL; ComponentLink1URL: http://www.ti.com/; ComponentLink2Description: Datasheet; ComponentLink2URL: http://www.ti.com/general/docs/lit/getliterature.tsp?genericPartNumber=TPA3107D2&fileType=pdf; ComponentLink3Description: Package Specification; ComponentLink3URL: http://www.ti.com/litv/pdf/mpdi001b
footprint TI-PAP64-4935X4935TP_N (QFP, 64-Leads, Body 10x10mm, Pitch 0.5mm, Thermal Pad 5.3x5.3mm, IPC Medium Density)
footprint TI-PAP64-4935X4935TP_L (QFP, 64-Leads, Body 10x10mm, Pitch 0.5mm, Thermal Pad 5.3x5.3mm, IPC High Density)
footprint TI-PAP64-4935X4935TP_M (QFP, 64-Leads, Body 10x10mm, Pitch 0.5mm, Thermal Pad 5.3x5.3mm, IPC Low Density)
part A pins: 5 RINN (in) "Negative audio input for right channel. Biased at VREG/2.", 6 RINP (in) "Positive audio input for right channel. Biased at VREG/2.", 8 LINP (in) "Positive audio input for left channel. Biased at VREG/2.", 9 LINN (in) "Negative audio input for left channel. Biased at VREG/2.", 10 GAIN0 (in) "Gain select least significant bit. TTL logic levels with compliance to VREG.", 11 GAIN1 (in) "Gain select least significant bit. TTL logic levels with compliance to VREG.", 12 MSTR/~{SLV} (in) "Master/Slave select for determining direction of SYNC terminal.HIGH=Master mode, SYNC terminal is an output; LOW = slave mode, SYNC terminal accepts a clock input. TTL logic levels with compliance to VREG.", 17 SYNC (io) "Clock input/output for synchronizing multiple class-D devices. Direction determined by MSTR/S\L\V\ terminal. Input signal not to exceed VREG", 18 ROSC "I/O for current setting resistor of ramp generator", 19 VREG "4-V regulated output for use by internal cells, GAINx, MUTE, and MSTR/S\L\V\ pins only. Not specified for driving other external circuitry.", 20 VBYP "Reference for preamplifier. Nominally equal to 1.25 V. Also controls start-up time via external capacitor sizing.", 26 BSLP "Bootstrap I/O for left channel, positive high-side FET.", 27 LOUTP (hiz) "Class-D 1/2-H-bridge positive output for left channel.", 28 LOUTP (hiz) "Class-D 1/2-H-bridge positive output for left channel.", 29 LOUTN (hiz) "Class-D 1/2-H-bridge negative output for left channel.", 30 LOUTN (hiz) "Class-D 1/2-H-bridge negative output for left channel.", 31 BSLN "Bootstrap I/O for left channel, negative high-side FET.", 40 VCLAMPL "Internally generated voltage supply for left channel bootstrap capacitor.", 41 VCLAMPR "Internally generated voltage supply for right channel bootstrap capacitor.", 50 BSRN "Bootstrap I/O for right channel, negative high-side FET.", 51 ROUTN (hiz) "Class-D 1/2-H-bridge negative output for right channel.", 52 ROUTN (hiz) "Class-D 1/2-H-bridge negative output for right channel.", 53 ROUTP (hiz) "Class-D 1/2-H-bridge positive output for right channel", 54 ROUTP (hiz) "Class-D 1/2-H-bridge positive output for right channel", 55 BSRP "Bootstrap I/O for right channel, positive high-side FET.", 61 ~{SHUTDOWN} (in) "Shutdown signal for IC (LOW = disabled, HIGH = operational). TTL logic levels with compliance to AVCC.", 62 MUTE (in) "Mute signal for quick disable/enable of outputs (HIGH = outputs high-Z, LOW = outputs enabled). TTL logic levels with compliance to AVCC.", 63 FAULT (hiz) "TTL compatible output. HIGH = short-circuit fault. LOW = no fault. Only reports short-circuit faults. Thermal faults are not reported on this terminal."
part B pins: 7 AGND (power) "Analog ground for digital/analog cells in core.", 21 AGND (power) "Analog ground for digital/analog cells in core.", 35 PVCCL (power) "Power supply for left channel H-bridge, not internally connected to PVCCR or AVCC.", 36 PVCCL (power) "Power supply for left channel H-bridge, not internally connected to PVCCR or AVCC.", 37 PGNDL (power) "Power ground for left channel H-bridge.", 38 PGNDL (power) "Power ground for left channel H-bridge.", 43 PGNDR (power) "Power ground for right channel H-bridge.", 44 PGNDR (power) "Power ground for right channel H-bridge.", 45 PVCCR (power) "Power supply for right channel H-bridge, not connected to PVCCL or AVCC", 46 PVCCR (power) "Power supply for right channel H-bridge, not connected to PVCCL or AVCC", 64 AVCC (power) "High-voltage analog power supply. Not internally connected to PVCCR or PVCCL.", 65 EP (power) "Connect to AGND and PGND - should be star point for both grounds. Internal resistive connection to AGND and PGND. Thermal vias on the PCB should connect this pad to a large copper area on an internal or bottom layer for the (See Datasheet)"
part C pins: 1 NC "Not internally connected", 2 NC "Not internally connected", 3 NC "Not internally connected", 4 NC "Not internally connected", 13 NC "Not internally connected", 14 NC "Not internally connected", 15 NC "Not internally connected", 16 NC "Not internally connected", 22 NC "Not internally connected", 23 NC "Not internally connected", 24 NC "Not internally connected", 25 NC "Not internally connected", 32 NC "Not internally connected", 33 NC "Not internally connected", 34 NC "Not internally connected", 39 NC "Not internally connected", 42 NC "Not internally connected", 47 NC "Not internally connected", 48 NC "Not internally connected", 49 NC "Not internally connected", 56 NC "Not internally connected", 57 NC "Not internally connected", 58 NC "Not internally connected", 59 NC "Not internally connected", 60 NC "Not internally connected"